# Altium footprint library ECS-.327-12.5-34B-TR.PcbLib: 2 footprints
Each footprint in its own frame and in the unit in brackets; x right, y up, seen from the top. Pads: shape width x height; smd on the part's side, far side on the other; paste and mask are expansions set on the pad; w line width, h text height; cw(c..) or ccw(c..) is an arc to the next point about the centre after c.
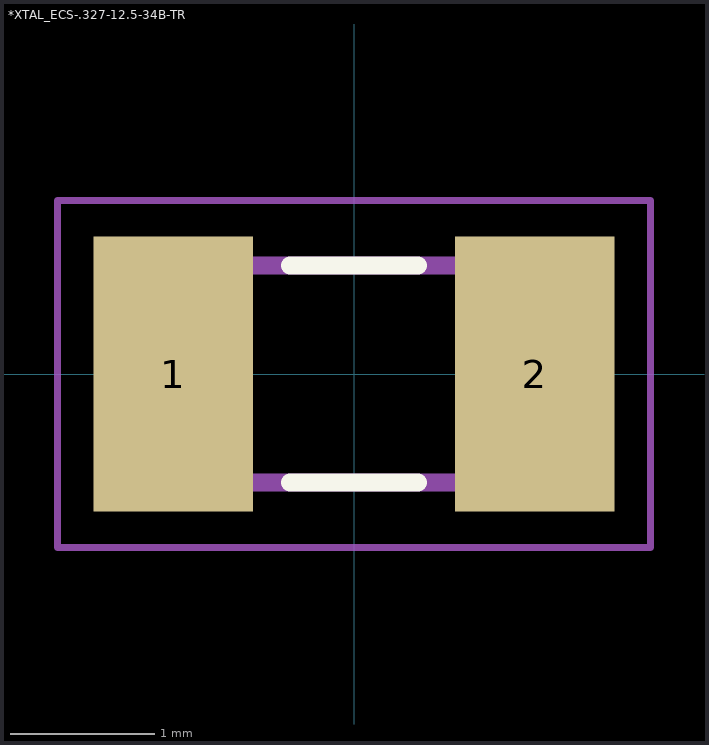
[diagram p0: the footprints below, top view; thin cyan lines are the x and y axes]

## *XTAL_ECS-.327-12.5-34B-TR [mm]
pads (2):
  rect 1.1x1.9 smd: 1(-1.25,0) 2(1.25,0)
Top Overlay:
  lines w0.127: -0.44,-0.75 0.44,-0.75 ; -0.44,0.75 0.44,0.75
Mechanical 4:
  lines w0.127: -1.6,-0.75 1.6,-0.75 ; -1.6,-0.75 -1.6,0.75 ; -1.6,-0.75 1.6,-0.75 ; -1.6,-0.75 -1.6,0.75 ; -1.6,0.75 1.6,0.75 ; -1.6,0.75 1.6,0.75 ; 1.6,-0.75 1.6,0.75 ; 1.6,-0.75 1.6,0.75
Mechanical 16:
  lines w0.05: -2.05,-1.2 -2.05,1.2 2.05,1.2 2.05,-1.2 -2.05,-1.2

## PCBComponent_1 [mm]